# Altium integrated library CSRF0805FT10L0.IntLib: 1 symbol
Pins are listed as number, name and electrical type; pins without a type are passive.

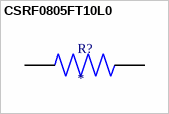
[diagram p0: symbol CSRF0805FT10L0]

## CSRF0805FT10L0
designator R?
MP: CSRF0805FT10L0; Package: None; Price: None; Value: *; Availability: Unavailable
footprint RESC2113X85N
pins: 1, 2